# EAGLE library part NORFLASH (library Passives)
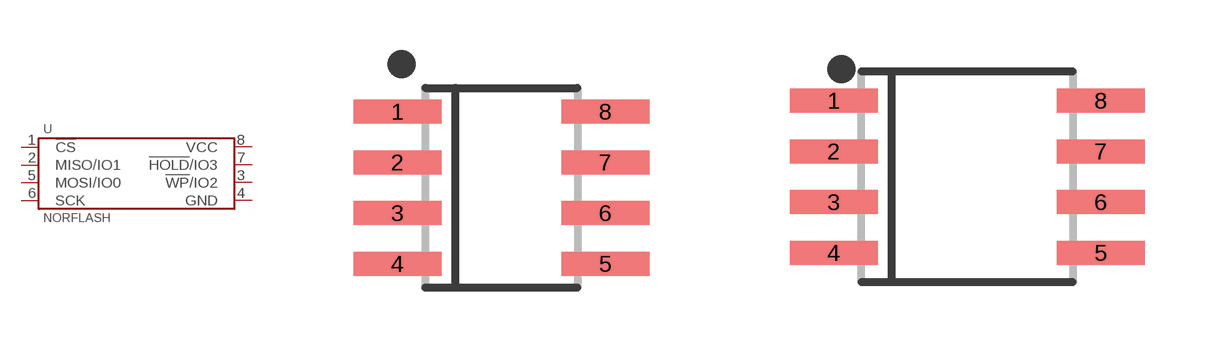
[diagram p9: symbol with the pads of SOIC-8; footprints SOIC-8, SOIC-8-W]

Designator prefix U

## NORFLASH-SOIC  [SOIC-8]
1  !CS
2  MISO/IO1
3  !WP!/IO2
4  GND
5  MOSI/IO0
6  SCK
7  !HOLD!/IO3
8  VCC

## NORFLASH-SOIC-W  [SOIC-8-W]
Pads as for SOIC-8

## NORFLASH-USON  [USON-8-2X3]
1  !CS
2  MISO/IO1
3  !WP!/IO2
4  GND
5  MOSI/IO0
6  SCK
7  !HOLD!/IO3
8  VCC
P$1  GND

## NORFLASH-WSON  [WSON-8-6X5]
1  !CS
2  MISO/IO1
3  !WP!/IO2
4  GND
5  MOSI/IO0
6  SCK
7  !HOLD!/IO3
8  VCC
PAD  GND

## Footprint SOIC-8 (pad centres in mm)
smd 2.2 x 0.6: 1 -2.6,1.905; 2 -2.6,0.635; 3 -2.6,-0.635; 4 -2.6,-1.905; 5 2.6,-1.905; 6 2.6,-0.635; 7 2.6,0.635; 8 2.6,1.905

## Footprint SOIC-8-W (pad centres in mm)
smd 2.2 x 0.6: 1 -3.34,1.905; 2 -3.34,0.635; 3 -3.34,-0.635; 4 -3.34,-1.905; 5 3.34,-1.905; 6 3.34,-0.635; 7 3.34,0.635; 8 3.34,1.905

## Footprint USON-8-2X3 (pad centres in mm)
smd 0.6 x 0.3: 1 -1.4,0.75; 2 -1.4,0.25; 3 -1.4,-0.25; 4 -1.4,-0.75; 5 1.4,-0.75; 6 1.4,-0.25; 7 1.4,0.25; 8 1.4,0.75
smd 0.4 x 1.8: P$1 0,0

## Footprint WSON-8-6X5 (pad centres in mm)
smd 1.1 x 0.5: 1 -2.9,1.905; 2 -2.9,0.635; 3 -2.9,-0.635; 4 -2.9,-1.905; 5 2.9,-1.905; 6 2.9,-0.635; 7 2.9,0.635; 8 2.9,1.905
smd 3.6 x 4.5: PAD 0,0